# EAGLE library part MINIFIT-6POS (library hurst)
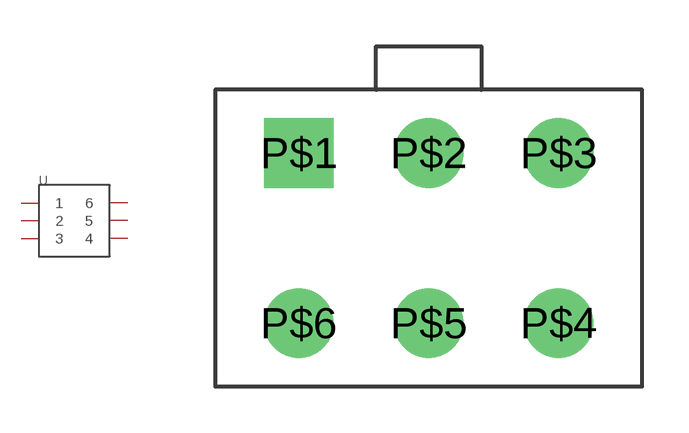
[diagram p3: symbol with the pads of 5566-6AXX-X-X; footprint 5566-6AXX-X-X]

Designator prefix -

## MINIFIT-6POS  [5566-6AXX-X-X]
P$1  1
P$2  2
P$3  3
P$4  4
P$5  5
P$6  6

## Footprint 5566-6AXX-X-X (pad centres in mm)
drill 1.5 square: P$1 -4.2,2.75
drill 1.5 round: P$2 0,2.75; P$3 4.2,2.75; P$4 4.2,-2.75; P$5 0,-2.75; P$6 -4.2,-2.75